# Altium footprint library TI-TSSOP-44.PcbLib: 1 footprints
Each footprint in its own frame and in the unit in brackets; x right, y up, seen from the top. Pads: shape width x height; smd on the part's side, far side on the other; paste and mask are expansions set on the pad; w line width, h text height; cw(c..) or ccw(c..) is an arc to the next point about the centre after c.
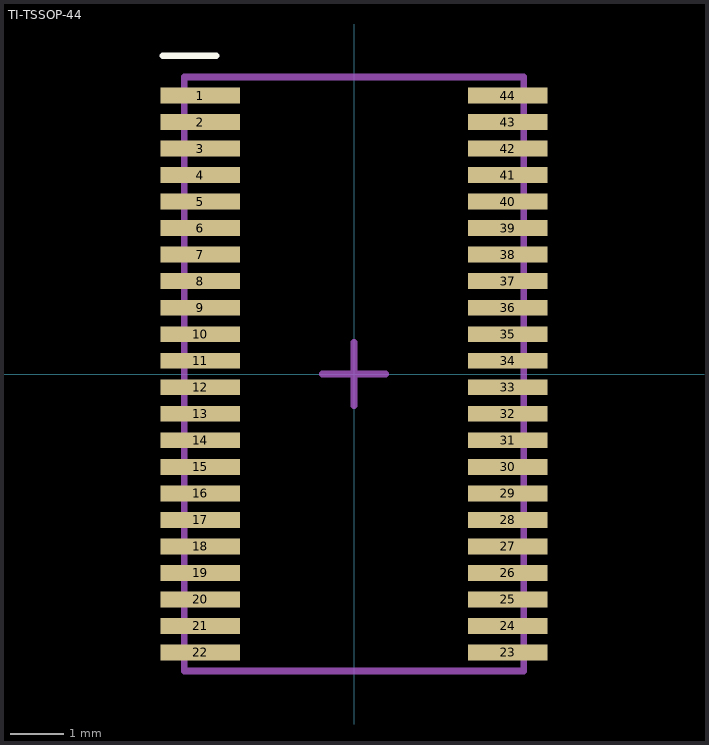
[diagram p0: the footprint, top view; thin cyan lines are the x and y axes]

## TI-TSSOP-44 [mm]
pads (44):
  rect 1.5x0.3 smd mask+0.1: 1(-2.9,5.25) 2(-2.9,4.75) 3(-2.9,4.25) 4(-2.9,3.75) 5(-2.9,3.25) 6(-2.9,2.75) 7(-2.9,2.25) 8(-2.9,1.75) 9(-2.9,1.25) 10(-2.9,0.75) 11(-2.9,0.25) 12(-2.9,-0.25) 13(-2.9,-0.75) 14(-2.9,-1.25) 15(-2.9,-1.75) 16(-2.9,-2.25) 17(-2.9,-2.75) 18(-2.9,-3.25) 19(-2.9,-3.75) 20(-2.9,-4.25) 21(-2.9,-4.75) 22(-2.9,-5.25) 23(2.9,-5.25) 24(2.9,-4.75) 25(2.9,-4.25) 26(2.9,-3.75) 27(2.9,-3.25) 28(2.9,-2.75) 29(2.9,-2.25) 30(2.9,-1.75) 31(2.9,-1.25) 32(2.9,-0.75) 33(2.9,-0.25) 34(2.9,0.25) 35(2.9,0.75) 36(2.9,1.25) 37(2.9,1.75) 38(2.9,2.25) 39(2.9,2.75) 40(2.9,3.25) 41(2.9,3.75) 42(2.9,4.25) 43(2.9,4.75) 44(2.9,5.25)
Top Overlay:
  lines w0.127: -3.6,6 -2.6,6
Mechanical 13:
  lines w0.127: -3.2,-5.6 -3.2,5.6 3.2,5.6 3.2,-5.6 -3.2,-5.6
Mechanical 15:
  lines w0.127: -0.6,0 0,0 ; 0,-0.6 0,0 ; 0,0.6 0,0 ; 0.6,0 0,0
3D body "TSSOP44.step": height 1.2, standoff 0, extent -3.219,-5.55 3.219,5.55